# Altium footprint library Footprints.PcbLib: 5 footprints
Each footprint in its own frame and in the unit in brackets; x right, y up, seen from the top. Pads: shape width x height; smd on the part's side, far side on the other; paste and mask are expansions set on the pad; w line width, h text height; cw(c..) or ccw(c..) is an arc to the next point about the centre after c.
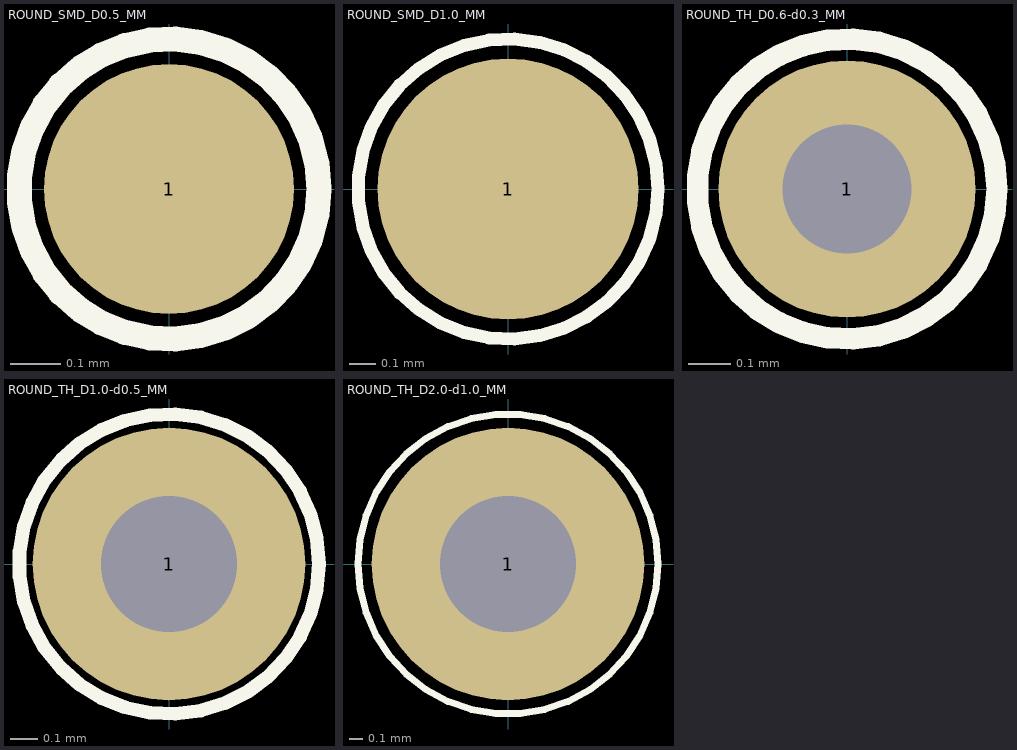
[diagram p0: the footprints below, top view; thin cyan lines are the x and y axes]

## ROUND_SMD_D0.5_MM [mm]
pads (1):
  round 0.5 smd mask+0.02: 1(0,0)
Top Overlay:
  circle w0.05: c0,0 r0.3

## ROUND_SMD_D1.0_MM [mm]
pads (1):
  round 1 smd mask+0.05: 1(0,0)
Top Overlay:
  circle w0.05: c0,0 r0.575

## ROUND_TH_D0.6-d0.3_MM [mm]
pads (1):
  round 0.6 hole 0.3 mask+0.01: 1(0,0)
Top Overlay:
  circle w0.05: c0,0 r0.35

## ROUND_TH_D1.0-d0.5_MM [mm]
pads (1):
  round 1 hole 0.5 mask+0.03: 1(0,0)
Top Overlay:
  circle w0.05: c0,0 r0.55

## ROUND_TH_D2.0-d1.0_MM [mm]
pads (1):
  round 2 hole 1 mask+0.05: 1(0,0)
Top Overlay:
  circle w0.05: c0,0 r1.1